# EAGLE library part CON-2X3 (library degson)
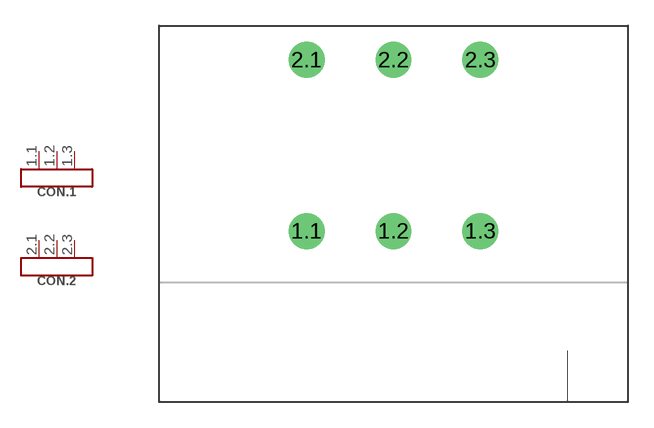
[diagram p3: symbol with the pads of 2EDGRHM-5.08-06P; footprint 2EDGRHM-5.08-06P]

Designator prefix CON; gates .1=CON3 .2=CON3

## CON-2X3 (MANF: DEGSON; MANF#: 2EDGRHM-5.08-06P; TYPE: 2EDGRHM-5.08)  [2EDGRHM-5.08-06P]
1.1  .1:1
1.2  .1:2
1.3  .1:3
2.1  .2:1
2.2  .2:2
2.3  .2:3

## Footprint 2EDGRHM-5.08-06P (pad centres in mm)
Ningbo Kaifei KF2EDGRHM-5.08-2x3P terminal block PCB mount right angle, 2 row, with screw Igor Odaikin, May 2020
drill 1.4: 1.1 -5.08,-10.008; 1.2 0,-10.008; 1.3 5.08,-10.008; 2.1 -5.08,0; 2.2 0,0; 2.3 5.08,0